# EAGLE library part MAGI³C-VDRM_BQFN_171021501 (library 171050601_Eagle_VDRM_rev19a)
MagI³C-VDRM Variable Step Down Regulator Module Characteristics Low conducted and radiated EMI (compliant to EN55022 class B / CISPR-22) TO263-7EP Leaded package for easy manufacturing and prototyping Simple layout Wide input voltage range for input transient capability Support ambient temperatures up to + 105 °C 2 solder cycles supported QFN Low profile package Simple application circuit (only 4 external components required) Optional multiple features (adj.frequency, adj.softstart, power good, sequencing, tracking, synchronization to external clock, adjustable undervoltage lockout) Wide input voltage range QFN41 type 3 solder cycles supported LGA-16EP Low profile LGA-package Stand alone solution (CIN and COUT integrated, 2 external components to set VOUT) Ideal for space constrained applications 2 solder cycles supported Applications Point-of-Load DC-DC applications from 24V, 18V, 15V, 12V, 9V, 5V industrial rails Industrial, Test & Measurement, Medical applications System power supplies I/O interface power supply DSPs, FPGAs, MCUs and MPUs supply High density distributed power systems Telecommunication applications <https://katalog.we-online.com/media/images/v2/o33388v209%20MagIC_VDRM_pf2.jpg> Details see: https://katalog.we-online.com/en/pm/MAGIC-VDRM Updated by Ella Wu 2019-09-19 2019(C) Wurth Elektronik
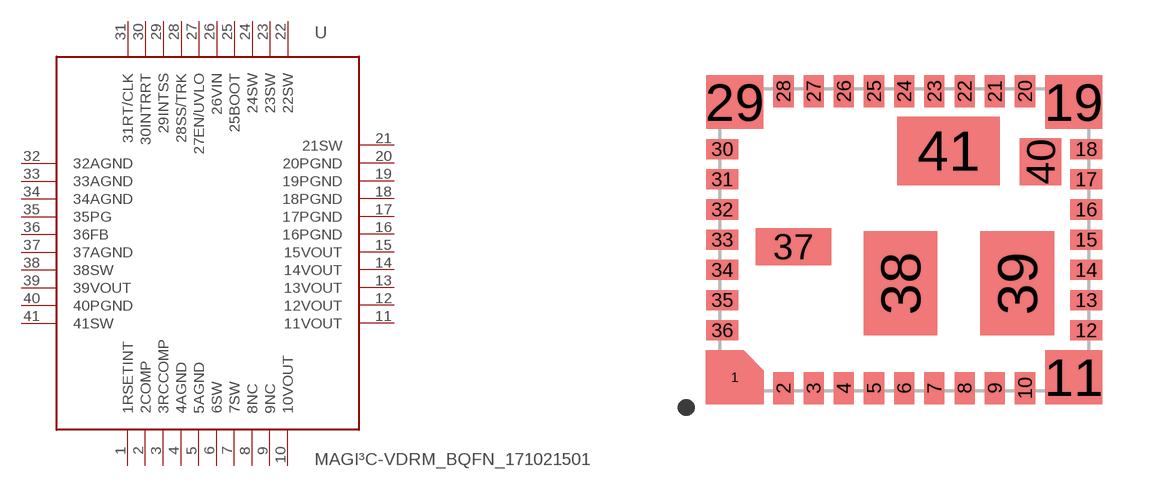
[diagram p0: symbol with the pads of MAGI³C-VDRM_BQFN_171021501; footprint MAGI³C-VDRM_BQFN_171021501]

Designator prefix U

## MAGI³C-VDRM_BQFN_171021501 (DATASHEET-URL: https://katalog.we-online.de/pm/datasheet/171021501.pdf; I-OUTPUT: 2.5A; MOUNT: SMT; PART-NUMBER: 171021501; V-INPUT: 7-50V; V-OUTPUT: 2.5-15V)  [MAGI³C-VDRM_BQFN_171021501]
1  1RSETINT
2  2COMP
3  3RCCOMP
4  4AGND
5  5AGND
6  6SW
7  7SW
8  8NC
9  9NC
10  10VOUT
11  11VOUT
12  12VOUT
13  13VOUT
14  14VOUT
15  15VOUT
16  16PGND
17  17PGND
18  18PGND
19  19PGND
20  20PGND
21  21SW
22  22SW
23  23SW
24  24SW
25  25BOOT
26  26VIN
27  27EN/UVLO
28  28SS/TRK
29  29INTSS
30  30INTRRT
31  31RT/CLK
32  32AGND
33  33AGND
34  34AGND
35  35PG
36  36FB
37  37AGND
38  38SW
39  39VOUT
40  40PGND
41  41SW

## Footprint MAGI³C-VDRM_BQFN_171021501 (pad centres in mm)
smd 0.813 x 0.406: 1 -5.05,-4.1
smd 0.6 x 0.95: 2 -3.6,-4.425; 3 -2.7,-4.425; 4 -1.8,-4.425; 5 -0.9,-4.425; 6 0,-4.425; 7 0.9,-4.425; 8 1.8,-4.425; 9 2.7,-4.425; 10 3.6,-4.425; 20 3.6,4.425; 21 2.7,4.425; 22 1.8,4.425; 23 0.9,4.425; 24 0,4.425; 25 -0.9,4.425; 26 -1.8,4.425; 27 -2.7,4.425; 28 -3.6,4.425
smd 1.7 x 1.6: 11 5.05,-4.1; 19 5.05,4.1; 29 -5.05,4.1
smd 0.95 x 0.6: 12 5.425,-2.7; 13 5.425,-1.8; 14 5.425,-0.9; 15 5.425,0; 16 5.425,0.9; 17 5.425,1.8; 18 5.425,2.7; 30 -5.425,2.7; 31 -5.425,1.8; 32 -5.425,0.9; 33 -5.425,0; 34 -5.425,-0.9; 35 -5.425,-1.8; 36 -5.425,-2.7
smd 2.25 x 1.1: 37 -3.3,-0.21
smd 2.2 x 3.1: 38 -0.11,-1.3; 39 3.37,-1.3
smd 1.24 x 1.4: 40 4.06,2.33
smd 3.05 x 2.04: 41 1.32,2.65